# Altium schematic symbol library kmilo17pet-TI_LDO_400_7500.SchLib: 1409 symbols (part 33 of 60)
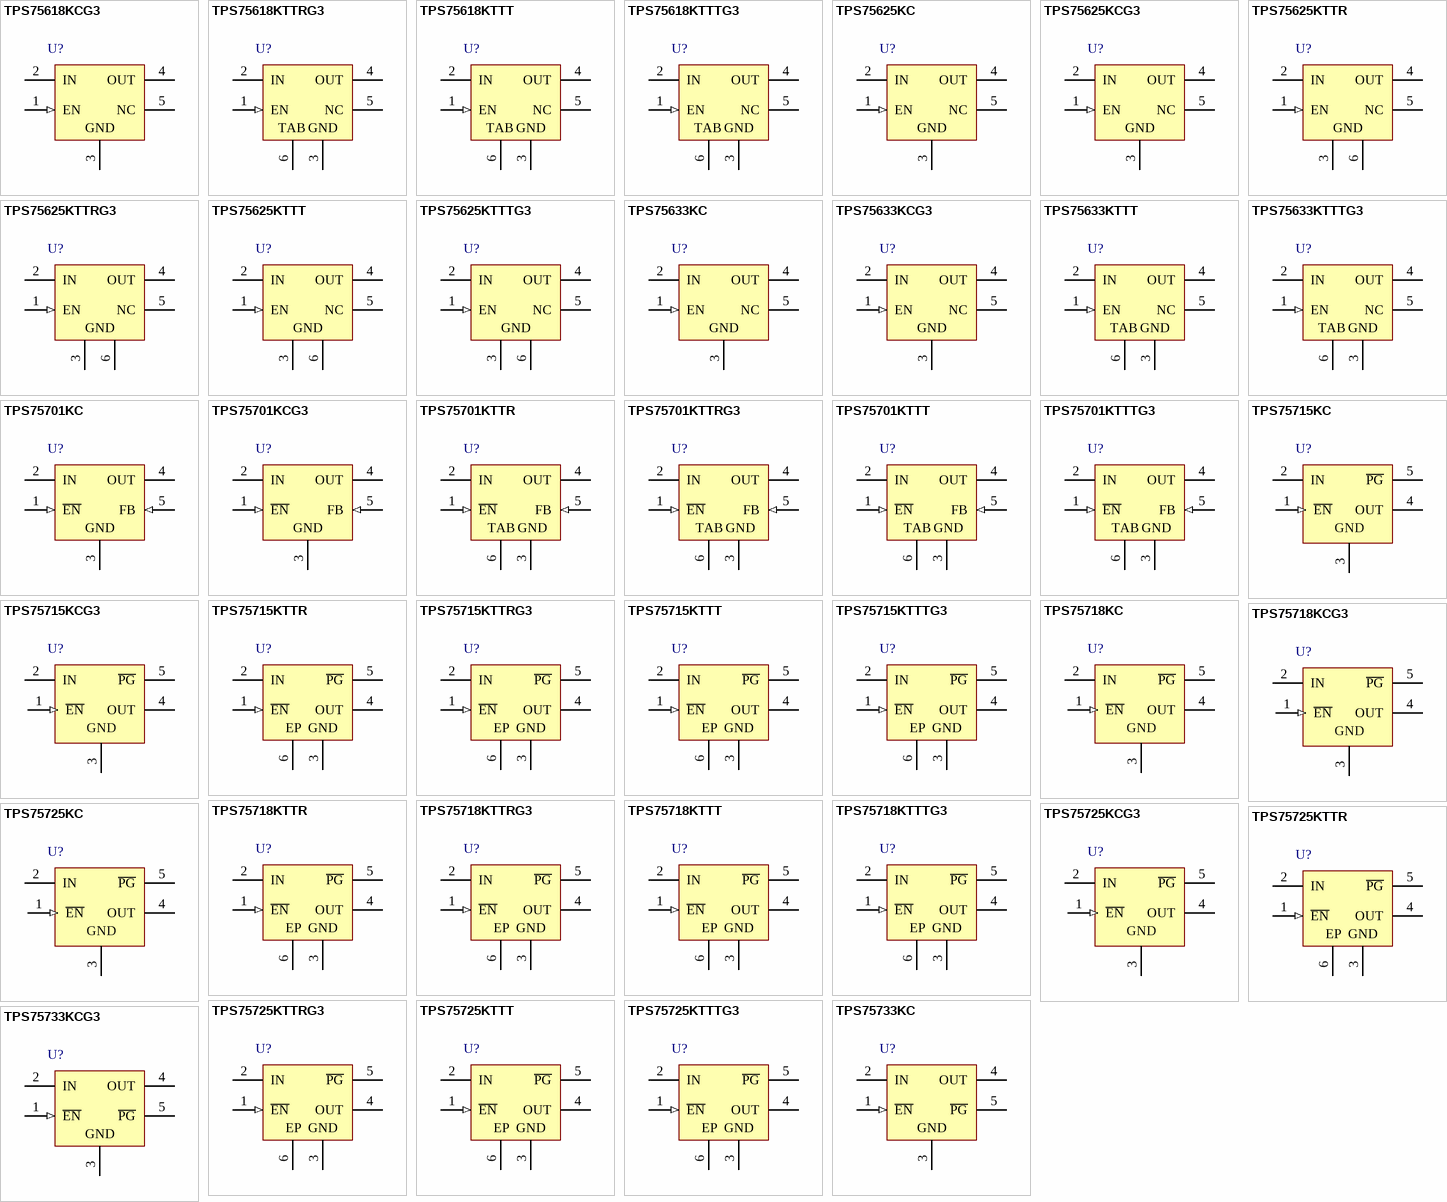
[diagram p82: symbols TPS75618KCG3 to TPS75733KCG3]

## TPS75725KTTT
designator U?
Single Output Fast Transient Response LDO, 3 A, Fixed 2.5 V Output, 2.8 to 5.5 V Input, with Low IQ, 5-pin DDPAK (KTT), -40 to 125 degC, Green (RoHS & no Sb/Br); Manufacturer: Texas Instruments; PartNumber: TPS75725KTTT; Fixed Output Options(V): 2.5; Iout(Max)(A): 3; Iq(Typ)(mA): 0.12; Power Good: TRUE; SubFamily: Single Channel LDO; Vdo(Typ)(mV): 150; Vin(Max)(V): 5.5; Vin(Min)(V): 2.8; DatasheetVersion: SLVS306E; PackageVersion: 4200577-3/F; PackageReference: KTT5; PackageDescription: 3-Pin Plastic Flange Mount, Body 10.16 x 10.34 mm, Pitch 1.7 mm; Supplier 1: Digi-Key; Supplier Part Number 1: 296-15923-2-ND; Supplier 2: Digi-Key; Supplier Part Number 2: 296-15923-1-ND; Supplier 3: Digi-Key; Supplier Part Number 3: 296-15923-6-ND; Supplier 4: Farnell; Supplier Part Number 4: 1460890; Supplier 5: Newark; Supplier Part Number 5: 87H2994; Supplier 6: Mouser; Supplier Part Number 6: 595-TPS75725KTTT; Eco-Plan: Green (RoHS & no Sb/Br); Vout Adj(Max)(V): 2.5; Vout Adj(Min)(V): 2.5; Mounting Technology: Surface Mount; Code_JEDEC: TO-263; ComponentLink1Description: Manufacturer URL; ComponentLink1URL: http://www.ti.com/; ComponentLink2Description: Datasheet; ComponentLink2URL: http://www.ti.com/general/docs/lit/getliterature.tsp?genericPartNumber=TPS75725&fileType=pdf; ComponentLink3Description: Package Specification; ComponentLink3URL: http://www.ti.com/litv/pdf/mpsf007e
footprint TI-KTT5_N (DPAK, 5-Leads, Body 10.16x8.925mm, Pitch 1.7mm, IPC Medium Density)
footprint TI-KTT5_L (DPAK, 5-Leads, Body 10.16x8.925mm, Pitch 1.7mm, IPC High Density)
footprint TI-KTT5_M (DPAK, 5-Leads, Body 10.16x8.925mm, Pitch 1.7mm, IPC Low Density)
pins: 1 ~{EN} (in) "Enable input", 2 IN (power) "Input voltage", 3 GND (power) "Regulator ground", 4 OUT (power) "Regulated output voltage", 5 ~{PG} (hiz) "P\G\ output for fixed options", 6 EP (power) "Connect to GND or Float"

## TPS75725KTTTG3
designator U?
Single Output Fast Transient Response LDO, 3 A, Fixed 2.5 V Output, 2.8 to 5.5 V Input, with Low IQ, 5-pin DDPAK (KTT), -40 to 125 degC, Green (RoHS & no Sb/Br); Manufacturer: Texas Instruments; PartNumber: TPS75725KTTTG3; Fixed Output Options(V): 2.5; Iout(Max)(A): 3; Iq(Typ)(mA): 0.12; Power Good: TRUE; SubFamily: Single Channel LDO; Vdo(Typ)(mV): 150; Vin(Max)(V): 5.5; Vin(Min)(V): 2.8; DatasheetVersion: SLVS306E; PackageVersion: 4200577-3/F; PackageReference: KTT5; PackageDescription: 3-Pin Plastic Flange Mount, Body 10.16 x 10.34 mm, Pitch 1.7 mm; Supplier 1: Digi-Key; Supplier Part Number 1: TPS75725KTTTG3-ND; Supplier 2: Mouser; Supplier Part Number 2: 595-TPS75725KTTTG3; Eco-Plan: Green (RoHS & no Sb/Br); Vout Adj(Max)(V): 2.5; Vout Adj(Min)(V): 2.5; Mounting Technology: Surface Mount; Code_JEDEC: TO-263; ComponentLink1Description: Manufacturer URL; ComponentLink1URL: http://www.ti.com/; ComponentLink2Description: Datasheet; ComponentLink2URL: http://www.ti.com/general/docs/lit/getliterature.tsp?genericPartNumber=TPS75725&fileType=pdf; ComponentLink3Description: Package Specification; ComponentLink3URL: http://www.ti.com/litv/pdf/mpsf007e
footprint TI-KTT5_N (DPAK, 5-Leads, Body 10.16x8.925mm, Pitch 1.7mm, IPC Medium Density)
footprint TI-KTT5_L (DPAK, 5-Leads, Body 10.16x8.925mm, Pitch 1.7mm, IPC High Density)
footprint TI-KTT5_M (DPAK, 5-Leads, Body 10.16x8.925mm, Pitch 1.7mm, IPC Low Density)
pins: 1 ~{EN} (in) "Enable input", 2 IN (power) "Input voltage", 3 GND (power) "Regulator ground", 4 OUT (power) "Regulated output voltage", 5 ~{PG} (hiz) "P\G\ output for fixed options", 6 EP (power) "Connect to GND or Float"

## TPS75733KC
designator U?
Single Output Fast Transient Response LDO, 3 A, Fixed 3.3 V Output, 2.8 to 5.5 V Input, with Low IQ, 5-pin TO-220 (KC), -40 to 125 degC, Green (RoHS & no Sb/Br); Manufacturer: Texas Instruments; PartNumber: TPS75733KC; Fixed Output Options(V): 3.3; Iout(Max)(A): 3; Iq(Typ)(mA): 0.12; Power Good: TRUE; SubFamily: Single Channel LDO; Vdo(Typ)(mV): 150; Vin(Max)(V): 5.5; Vin(Min)(V): 2.8; DatasheetVersion: SLVS306E; PackageVersion: 4040208/F; PackageReference: KC5; PackageDescription: 5-Pin Plastic Flange Mount; Supplier 1: Digi-Key; Supplier Part Number 1: 296-11006-5-ND; Supplier 2: Newark; Supplier Part Number 2: 77C0978; Supplier 3: Mouser; Supplier Part Number 3: 595-TPS75733KC; Eco-Plan: Green (RoHS & no Sb/Br); Vout Adj(Max)(V): 3.3; Vout Adj(Min)(V): 3.3; Mounting Technology: Through Hole; ComponentLink1Description: Manufacturer URL; ComponentLink1URL: http://www.ti.com/; ComponentLink2Description: Datasheet; ComponentLink2URL: http://www.ti.com/general/docs/lit/getliterature.tsp?genericPartNumber=TPS75733&fileType=pdf; ComponentLink3Description: Package Specification; ComponentLink3URL: http://www.ti.com/litv/pdf/msot008c
footprint TI-KC5 (FM, 5-Leads, Body 10.16x8.46mm, Pitch 1.7mm,)
pins: 1 ~{EN} (in) "Enable input", 2 IN (power) "Input voltage", 3 GND (power) "Regulator ground", 4 OUT (power) "Regulated output voltage", 5 ~{PG} (hiz) "P\G\ output for fixed options"

## TPS75733KCG3
designator U?
Single Output Fast Transient Response LDO, 3 A, Fixed 3.3 V Output, 2.8 to 5.5 V Input, with Low IQ, 5-pin TO-220 (KC), -40 to 125 degC, Green (RoHS & no Sb/Br); Manufacturer: Texas Instruments; PartNumber: TPS75733KCG3; Fixed Output Options(V): 3.3; Iout(Max)(A): 3; Iq(Typ)(mA): 0.12; Power Good: TRUE; SubFamily: Single Channel LDO; Vdo(Typ)(mV): 150; Vin(Max)(V): 5.5; Vin(Min)(V): 2.8; DatasheetVersion: SLVS306E; PackageVersion: 4040208/F; PackageReference: KC5; PackageDescription: 5-Pin Plastic Flange Mount; Supplier 1: Digi-Key; Supplier Part Number 1: TPS75733KCG3-ND; Supplier 2: Mouser; Supplier Part Number 2: 595-TPS75733KCG3; Eco-Plan: Green (RoHS & no Sb/Br); Vout Adj(Max)(V): 3.3; Vout Adj(Min)(V): 3.3; Mounting Technology: Through Hole; ComponentLink1Description: Manufacturer URL; ComponentLink1URL: http://www.ti.com/; ComponentLink2Description: Datasheet; ComponentLink2URL: http://www.ti.com/general/docs/lit/getliterature.tsp?genericPartNumber=TPS75733&fileType=pdf; ComponentLink3Description: Package Specification; ComponentLink3URL: http://www.ti.com/litv/pdf/msot008c
footprint TI-KC5 (FM, 5-Leads, Body 10.16x8.46mm, Pitch 1.7mm,)
pins: 1 ~{EN} (in) "Enable input", 2 IN (power) "Input voltage", 3 GND (power) "Regulator ground", 4 OUT (power) "Regulated output voltage", 5 ~{PG} (hiz) "P\G\ output for fixed options"

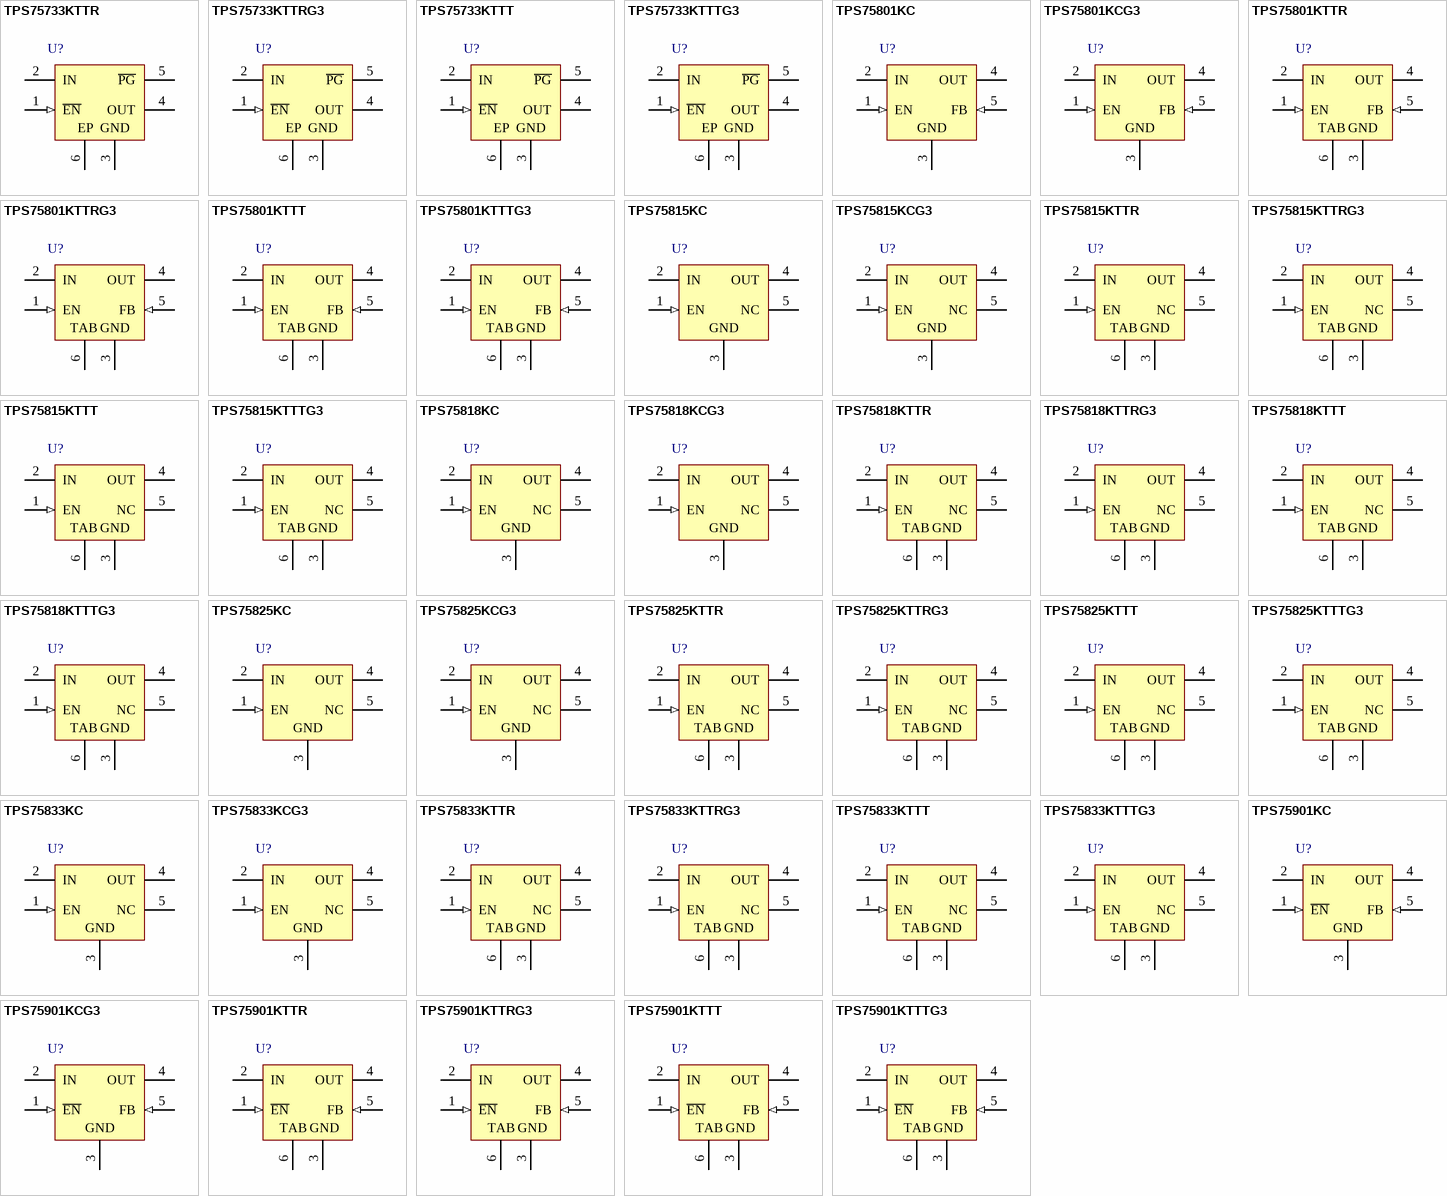
[diagram p26: symbols TPS75733KTTR to TPS75901KTTTG3]

## TPS75733KTTR
designator U?
Single Output Fast Transient Response LDO, 3 A, Fixed 3.3 V Output, 2.8 to 5.5 V Input, with Low IQ, 5-pin DDPAK (KTT), -40 to 125 degC, Green (RoHS & no Sb/Br); Manufacturer: Texas Instruments; PartNumber: TPS75733KTTR; Fixed Output Options(V): 3.3; Iout(Max)(A): 3; Iq(Typ)(mA): 0.12; Power Good: TRUE; SubFamily: Single Channel LDO; Vdo(Typ)(mV): 150; Vin(Max)(V): 5.5; Vin(Min)(V): 2.8; DatasheetVersion: SLVS306E; PackageVersion: 4200577-3/F; PackageReference: KTT5; PackageDescription: 3-Pin Plastic Flange Mount, Body 10.16 x 10.34 mm, Pitch 1.7 mm; Supplier 1: Digi-Key; Supplier Part Number 1: TPS75733KTTR-ND; Supplier 2: Mouser; Supplier Part Number 2: 595-TPS75733KTTR; Eco-Plan: Green (RoHS & no Sb/Br); Vout Adj(Max)(V): 3.3; Vout Adj(Min)(V): 3.3; Mounting Technology: Surface Mount; Code_JEDEC: TO-263; ComponentLink1Description: Manufacturer URL; ComponentLink1URL: http://www.ti.com/; ComponentLink2Description: Datasheet; ComponentLink2URL: http://www.ti.com/general/docs/lit/getliterature.tsp?genericPartNumber=TPS75733&fileType=pdf; ComponentLink3Description: Package Specification; ComponentLink3URL: http://www.ti.com/litv/pdf/mpsf007e
footprint TI-KTT5_N (DPAK, 5-Leads, Body 10.16x8.925mm, Pitch 1.7mm, IPC Medium Density)
footprint TI-KTT5_L (DPAK, 5-Leads, Body 10.16x8.925mm, Pitch 1.7mm, IPC High Density)
footprint TI-KTT5_M (DPAK, 5-Leads, Body 10.16x8.925mm, Pitch 1.7mm, IPC Low Density)
pins: 1 ~{EN} (in) "Enable input", 2 IN (power) "Input voltage", 3 GND (power) "Regulator ground", 4 OUT (power) "Regulated output voltage", 5 ~{PG} (hiz) "P\G\ output for fixed options", 6 EP (power) "Connect to GND or Float"

## TPS75733KTTRG3
designator U?
Single Output Fast Transient Response LDO, 3 A, Fixed 3.3 V Output, 2.8 to 5.5 V Input, with Low IQ, 5-pin DDPAK (KTT), -40 to 125 degC, Green (RoHS & no Sb/Br); Manufacturer: Texas Instruments; PartNumber: TPS75733KTTRG3; Fixed Output Options(V): 3.3; Iout(Max)(A): 3; Iq(Typ)(mA): 0.12; Power Good: TRUE; SubFamily: Single Channel LDO; Vdo(Typ)(mV): 150; Vin(Max)(V): 5.5; Vin(Min)(V): 2.8; DatasheetVersion: SLVS306E; PackageVersion: 4200577-3/F; PackageReference: KTT5; PackageDescription: 3-Pin Plastic Flange Mount, Body 10.16 x 10.34 mm, Pitch 1.7 mm; Supplier 1: Digi-Key; Supplier Part Number 1: TPS75733KTTRG3-ND; Supplier 2: Mouser; Supplier Part Number 2: 595-TPS75733KTTRG3; Eco-Plan: Green (RoHS & no Sb/Br); Vout Adj(Max)(V): 3.3; Vout Adj(Min)(V): 3.3; Mounting Technology: Surface Mount; Code_JEDEC: TO-263; ComponentLink1Description: Manufacturer URL; ComponentLink1URL: http://www.ti.com/; ComponentLink2Description: Datasheet; ComponentLink2URL: http://www.ti.com/general/docs/lit/getliterature.tsp?genericPartNumber=TPS75733&fileType=pdf; ComponentLink3Description: Package Specification; ComponentLink3URL: http://www.ti.com/litv/pdf/mpsf007e
footprint TI-KTT5_N (DPAK, 5-Leads, Body 10.16x8.925mm, Pitch 1.7mm, IPC Medium Density)
footprint TI-KTT5_L (DPAK, 5-Leads, Body 10.16x8.925mm, Pitch 1.7mm, IPC High Density)
footprint TI-KTT5_M (DPAK, 5-Leads, Body 10.16x8.925mm, Pitch 1.7mm, IPC Low Density)
pins: 1 ~{EN} (in) "Enable input", 2 IN (power) "Input voltage", 3 GND (power) "Regulator ground", 4 OUT (power) "Regulated output voltage", 5 ~{PG} (hiz) "P\G\ output for fixed options", 6 EP (power) "Connect to GND or Float"

## TPS75733KTTT
designator U?
Single Output Fast Transient Response LDO, 3 A, Fixed 3.3 V Output, 2.8 to 5.5 V Input, with Low IQ, 5-pin DDPAK (KTT), -40 to 125 degC, Green (RoHS & no Sb/Br); Manufacturer: Texas Instruments; PartNumber: TPS75733KTTT; Fixed Output Options(V): 3.3; Iout(Max)(A): 3; Iq(Typ)(mA): 0.12; Power Good: TRUE; SubFamily: Single Channel LDO; Vdo(Typ)(mV): 150; Vin(Max)(V): 5.5; Vin(Min)(V): 2.8; DatasheetVersion: SLVS306E; PackageVersion: 4200577-3/F; PackageReference: KTT5; PackageDescription: 3-Pin Plastic Flange Mount, Body 10.16 x 10.34 mm, Pitch 1.7 mm; Supplier 1: Digi-Key; Supplier Part Number 1: 296-15924-2-ND; Supplier 2: Digi-Key; Supplier Part Number 2: 296-15924-1-ND; Supplier 3: Digi-Key; Supplier Part Number 3: 296-15924-6-ND; Supplier 4: Newark; Supplier Part Number 4: 87H2995; Supplier 5: Mouser; Supplier Part Number 5: 595-TPS75733KTTT; Eco-Plan: Green (RoHS & no Sb/Br); Vout Adj(Max)(V): 3.3; Vout Adj(Min)(V): 3.3; Mounting Technology: Surface Mount; Code_JEDEC: TO-263; ComponentLink1Description: Manufacturer URL; ComponentLink1URL: http://www.ti.com/; ComponentLink2Description: Datasheet; ComponentLink2URL: http://www.ti.com/general/docs/lit/getliterature.tsp?genericPartNumber=TPS75733&fileType=pdf; ComponentLink3Description: Package Specification; ComponentLink3URL: http://www.ti.com/litv/pdf/mpsf007e
footprint TI-KTT5_N (DPAK, 5-Leads, Body 10.16x8.925mm, Pitch 1.7mm, IPC Medium Density)
footprint TI-KTT5_L (DPAK, 5-Leads, Body 10.16x8.925mm, Pitch 1.7mm, IPC High Density)
footprint TI-KTT5_M (DPAK, 5-Leads, Body 10.16x8.925mm, Pitch 1.7mm, IPC Low Density)
pins: 1 ~{EN} (in) "Enable input", 2 IN (power) "Input voltage", 3 GND (power) "Regulator ground", 4 OUT (power) "Regulated output voltage", 5 ~{PG} (hiz) "P\G\ output for fixed options", 6 EP (power) "Connect to GND or Float"

## TPS75733KTTTG3
designator U?
Single Output Fast Transient Response LDO, 3 A, Fixed 3.3 V Output, 2.8 to 5.5 V Input, with Low IQ, 5-pin DDPAK (KTT), -40 to 125 degC, Green (RoHS & no Sb/Br); Manufacturer: Texas Instruments; PartNumber: TPS75733KTTTG3; Fixed Output Options(V): 3.3; Iout(Max)(A): 3; Iq(Typ)(mA): 0.12; Power Good: TRUE; SubFamily: Single Channel LDO; Vdo(Typ)(mV): 150; Vin(Max)(V): 5.5; Vin(Min)(V): 2.8; DatasheetVersion: SLVS306E; PackageVersion: 4200577-3/F; PackageReference: KTT5; PackageDescription: 3-Pin Plastic Flange Mount, Body 10.16 x 10.34 mm, Pitch 1.7 mm; Supplier 1: Digi-Key; Supplier Part Number 1: TPS75733KTTTG3-ND; Supplier 2: Newark; Supplier Part Number 2: 54K1831; Supplier 3: Mouser; Supplier Part Number 3: 595-TPS75733KTTTG3; Eco-Plan: Green (RoHS & no Sb/Br); Vout Adj(Max)(V): 3.3; Vout Adj(Min)(V): 3.3; Mounting Technology: Surface Mount; Code_JEDEC: TO-263; ComponentLink1Description: Manufacturer URL; ComponentLink1URL: http://www.ti.com/; ComponentLink2Description: Datasheet; ComponentLink2URL: http://www.ti.com/general/docs/lit/getliterature.tsp?genericPartNumber=TPS75733&fileType=pdf; ComponentLink3Description: Package Specification; ComponentLink3URL: http://www.ti.com/litv/pdf/mpsf007e
footprint TI-KTT5_N (DPAK, 5-Leads, Body 10.16x8.925mm, Pitch 1.7mm, IPC Medium Density)
footprint TI-KTT5_L (DPAK, 5-Leads, Body 10.16x8.925mm, Pitch 1.7mm, IPC High Density)
footprint TI-KTT5_M (DPAK, 5-Leads, Body 10.16x8.925mm, Pitch 1.7mm, IPC Low Density)
pins: 1 ~{EN} (in) "Enable input", 2 IN (power) "Input voltage", 3 GND (power) "Regulator ground", 4 OUT (power) "Regulated output voltage", 5 ~{PG} (hiz) "P\G\ output for fixed options", 6 EP (power) "Connect to GND or Float"

## TPS75801KC
designator U?
Single Output Fast Transient Response LDO, 3 A, Adjustable 1.22 to 5 V Output, 2.8 to 5.5 V Input, with Low IQ, 5-pin TO-220 (KC), -40 to 85 degC, Green (RoHS & no Sb/Br); Manufacturer: Texas Instruments; PartNumber: TPS75801KC; Accuracy(%): 3; Iq(Typ)(mA): 0.12; SubFamily: Single Channel LDO; Vdo(Typ)(mV): 150; Vin(Max)(V): 5.5; Vin(Min)(V): 2.8; Vout Adj(Max)(V): 5; Vout Adj(Min)(V): 1.22; DatasheetVersion: SLVS330F; PackageVersion: 4040208/F; PackageReference: KC5; PackageDescription: 5-Pin Plastic Flange Mount; Supplier 1: Digi-Key; Supplier Part Number 1: 296-11957-5-ND; Supplier 2: Newark; Supplier Part Number 2: 77C0981; Supplier 3: Mouser; Supplier Part Number 3: 595-TPS75801KC; Eco-Plan: Green (RoHS & no Sb/Br); Iout(Max)(A): 3; Mounting Technology: Through Hole; ComponentLink1Description: Manufacturer URL; ComponentLink1URL: http://www.ti.com/; ComponentLink2Description: Datasheet; ComponentLink2URL: http://www.ti.com/general/docs/lit/getliterature.tsp?genericPartNumber=TPS75801&fileType=pdf; ComponentLink3Description: Package Specification; ComponentLink3URL: http://www.ti.com/litv/pdf/msot008c
footprint TI-KC5 (FM, 5-Leads, Body 10.16x8.46mm, Pitch 1.7mm,)
pins: 1 EN (in) "Enable input", 2 IN (power) "Input supply", 3 GND (power) "Ground", 4 OUT (power) "Regulated output voltage", 5 FB (in) "Feedback voltage for adjustable device."

## TPS75801KCG3
designator U?
Single Output Fast Transient Response LDO, 3 A, Adjustable 1.22 to 5 V Output, 2.8 to 5.5 V Input, with Low IQ, 5-pin TO-220 (KC), -40 to 85 degC, Green (RoHS & no Sb/Br); Manufacturer: Texas Instruments; PartNumber: TPS75801KCG3; Accuracy(%): 3; Iq(Typ)(mA): 0.12; SubFamily: Single Channel LDO; Vdo(Typ)(mV): 150; Vin(Max)(V): 5.5; Vin(Min)(V): 2.8; Vout Adj(Max)(V): 5; Vout Adj(Min)(V): 1.22; DatasheetVersion: SLVS330F; PackageVersion: 4040208/F; PackageReference: KC5; PackageDescription: 5-Pin Plastic Flange Mount; Supplier 1: Digi-Key; Supplier Part Number 1: TPS75801KCG3-ND; Supplier 2: Newark; Supplier Part Number 2: 54K1832; Supplier 3: Mouser; Supplier Part Number 3: 595-TPS75801KCG3; Eco-Plan: Green (RoHS & no Sb/Br); Iout(Max)(A): 3; Mounting Technology: Through Hole; ComponentLink1Description: Manufacturer URL; ComponentLink1URL: http://www.ti.com/; ComponentLink2Description: Datasheet; ComponentLink2URL: http://www.ti.com/general/docs/lit/getliterature.tsp?genericPartNumber=TPS75801&fileType=pdf; ComponentLink3Description: Package Specification; ComponentLink3URL: http://www.ti.com/litv/pdf/msot008c
footprint TI-KC5 (FM, 5-Leads, Body 10.16x8.46mm, Pitch 1.7mm,)
pins: 1 EN (in) "Enable input", 2 IN (power) "Input supply", 3 GND (power) "Ground", 4 OUT (power) "Regulated output voltage", 5 FB (in) "Feedback voltage for adjustable device."

## TPS75801KTTR
designator U?
Single Output Fast Transient Response LDO, 3 A, Adjustable 1.22 to 5 V Output, 2.8 to 5.5 V Input, with Low IQ, 5-pin DDPAK (KTT), -40 to 85 degC, Green (RoHS & no Sb/Br); Manufacturer: Texas Instruments; PartNumber: TPS75801KTTR; Accuracy(%): 3; Iq(Typ)(mA): 0.12; SubFamily: Single Channel LDO; Vdo(Typ)(mV): 150; Vin(Max)(V): 5.5; Vin(Min)(V): 2.8; Vout Adj(Max)(V): 5; Vout Adj(Min)(V): 1.22; DatasheetVersion: SLVS330F; PackageVersion: 4200577-3/F; PackageReference: KTT5; PackageDescription: 3-Pin Plastic Flange Mount, Body 10.16 x 10.34 mm, Pitch 1.7 mm; Supplier 1: Digi-Key; Supplier Part Number 1: 296-31994-2-ND; Supplier 2: Digi-Key; Supplier Part Number 2: 296-31994-1-ND; Supplier 3: Digi-Key; Supplier Part Number 3: 296-31994-6-ND; Supplier 4: Newark; Supplier Part Number 4: 77C0983; Supplier 5: Mouser; Supplier Part Number 5: 595-TPS75801KTTR; Eco-Plan: Green (RoHS & no Sb/Br); Iout(Max)(A): 3; Mounting Technology: Surface Mount; Code_JEDEC: TO-263; ComponentLink1Description: Manufacturer URL; ComponentLink1URL: http://www.ti.com/; ComponentLink2Description: Datasheet; ComponentLink2URL: http://www.ti.com/general/docs/lit/getliterature.tsp?genericPartNumber=TPS75801&fileType=pdf; ComponentLink3Description: Package Specification; ComponentLink3URL: http://www.ti.com/litv/pdf/mpsf007e
footprint TI-KTT5_N (DPAK, 5-Leads, Body 10.16x8.925mm, Pitch 1.7mm, IPC Medium Density)
footprint TI-KTT5_L (DPAK, 5-Leads, Body 10.16x8.925mm, Pitch 1.7mm, IPC High Density)
footprint TI-KTT5_M (DPAK, 5-Leads, Body 10.16x8.925mm, Pitch 1.7mm, IPC Low Density)
pins: 1 EN (in) "Enable input", 2 IN (power) "Input supply", 3 GND (power) "Ground", 4 OUT (power) "Regulated output voltage; see Output Capacitor section for output capacitor requirements.", 5 FB (in) "Feedback voltage for adjustable device.", 6 TAB (power) "Exposed thermal tab"

## TPS75801KTTRG3
designator U?
Single Output Fast Transient Response LDO, 3 A, Adjustable 1.22 to 5 V Output, 2.8 to 5.5 V Input, with Low IQ, 5-pin DDPAK (KTT), -40 to 85 degC, Green (RoHS & no Sb/Br); Manufacturer: Texas Instruments; PartNumber: TPS75801KTTRG3; Accuracy(%): 3; Iq(Typ)(mA): 0.12; SubFamily: Single Channel LDO; Vdo(Typ)(mV): 150; Vin(Max)(V): 5.5; Vin(Min)(V): 2.8; Vout Adj(Max)(V): 5; Vout Adj(Min)(V): 1.22; DatasheetVersion: SLVS330F; PackageVersion: 4200577-3/F; PackageReference: KTT5; PackageDescription: 3-Pin Plastic Flange Mount, Body 10.16 x 10.34 mm, Pitch 1.7 mm; Supplier 1: Digi-Key; Supplier Part Number 1: TPS75801KTTRG3-ND; Supplier 2: Newark; Supplier Part Number 2: 08K4971; Supplier 3: Mouser; Supplier Part Number 3: 595-TPS75801KTTRG3; Eco-Plan: Green (RoHS & no Sb/Br); Iout(Max)(A): 3; Mounting Technology: Surface Mount; Code_JEDEC: TO-263; ComponentLink1Description: Manufacturer URL; ComponentLink1URL: http://www.ti.com/; ComponentLink2Description: Datasheet; ComponentLink2URL: http://www.ti.com/general/docs/lit/getliterature.tsp?genericPartNumber=TPS75801&fileType=pdf; ComponentLink3Description: Package Specification; ComponentLink3URL: http://www.ti.com/litv/pdf/mpsf007e
footprint TI-KTT5_N (DPAK, 5-Leads, Body 10.16x8.925mm, Pitch 1.7mm, IPC Medium Density)
footprint TI-KTT5_L (DPAK, 5-Leads, Body 10.16x8.925mm, Pitch 1.7mm, IPC High Density)
footprint TI-KTT5_M (DPAK, 5-Leads, Body 10.16x8.925mm, Pitch 1.7mm, IPC Low Density)
pins: 1 EN (in) "Enable input", 2 IN (power) "Input supply", 3 GND (power) "Ground", 4 OUT (power) "Regulated output voltage; see Output Capacitor section for output capacitor requirements.", 5 FB (in) "Feedback voltage for adjustable device.", 6 TAB (power) "Exposed thermal tab"

## TPS75801KTTT
designator U?
Single Output Fast Transient Response LDO, 3 A, Adjustable 1.22 to 5 V Output, 2.8 to 5.5 V Input, with Low IQ, 5-pin DDPAK (KTT), -40 to 85 degC, Green (RoHS & no Sb/Br); Manufacturer: Texas Instruments; PartNumber: TPS75801KTTT; Accuracy(%): 3; Iq(Typ)(mA): 0.12; SubFamily: Single Channel LDO; Vdo(Typ)(mV): 150; Vin(Max)(V): 5.5; Vin(Min)(V): 2.8; Vout Adj(Max)(V): 5; Vout Adj(Min)(V): 1.22; DatasheetVersion: SLVS330F; PackageVersion: 4200577-3/F; PackageReference: KTT5; PackageDescription: 3-Pin Plastic Flange Mount, Body 10.16 x 10.34 mm, Pitch 1.7 mm; Supplier 1: Digi-Key; Supplier Part Number 1: 296-15925-2-ND; Supplier 2: Digi-Key; Supplier Part Number 2: 296-15925-1-ND; Supplier 3: Digi-Key; Supplier Part Number 3: 296-15925-6-ND; Supplier 4: Newark; Supplier Part Number 4: 87H2996; Supplier 5: Mouser; Supplier Part Number 5: 595-TPS75801KTTT; Eco-Plan: Green (RoHS & no Sb/Br); Iout(Max)(A): 3; Mounting Technology: Surface Mount; Code_JEDEC: TO-263; ComponentLink1Description: Manufacturer URL; ComponentLink1URL: http://www.ti.com/; ComponentLink2Description: Datasheet; ComponentLink2URL: http://www.ti.com/general/docs/lit/getliterature.tsp?genericPartNumber=TPS75801&fileType=pdf; ComponentLink3Description: Package Specification; ComponentLink3URL: http://www.ti.com/litv/pdf/mpsf007e
footprint TI-KTT5_N (DPAK, 5-Leads, Body 10.16x8.925mm, Pitch 1.7mm, IPC Medium Density)
footprint TI-KTT5_L (DPAK, 5-Leads, Body 10.16x8.925mm, Pitch 1.7mm, IPC High Density)
footprint TI-KTT5_M (DPAK, 5-Leads, Body 10.16x8.925mm, Pitch 1.7mm, IPC Low Density)
pins: 1 EN (in) "Enable input", 2 IN (power) "Input supply", 3 GND (power) "Ground", 4 OUT (power) "Regulated output voltage; see Output Capacitor section for output capacitor requirements.", 5 FB (in) "Feedback voltage for adjustable device.", 6 TAB (power) "Exposed thermal tab"

## TPS75801KTTTG3
designator U?
Single Output Fast Transient Response LDO, 3 A, Adjustable 1.22 to 5 V Output, 2.8 to 5.5 V Input, with Low IQ, 5-pin DDPAK (KTT), -40 to 85 degC, Green (RoHS & no Sb/Br); Manufacturer: Texas Instruments; PartNumber: TPS75801KTTTG3; Accuracy(%): 3; Iq(Typ)(mA): 0.12; SubFamily: Single Channel LDO; Vdo(Typ)(mV): 150; Vin(Max)(V): 5.5; Vin(Min)(V): 2.8; Vout Adj(Max)(V): 5; Vout Adj(Min)(V): 1.22; DatasheetVersion: SLVS330F; PackageVersion: 4200577-3/F; PackageReference: KTT5; PackageDescription: 3-Pin Plastic Flange Mount, Body 10.16 x 10.34 mm, Pitch 1.7 mm; Supplier 1: Digi-Key; Supplier Part Number 1: TPS75801KTTTG3-ND; Supplier 2: Newark; Supplier Part Number 2: 58K6980; Supplier 3: Mouser; Supplier Part Number 3: 595-TPS75801KTTTG3; Eco-Plan: Green (RoHS & no Sb/Br); Iout(Max)(A): 3; Mounting Technology: Surface Mount; Code_JEDEC: TO-263; ComponentLink1Description: Manufacturer URL; ComponentLink1URL: http://www.ti.com/; ComponentLink2Description: Datasheet; ComponentLink2URL: http://www.ti.com/general/docs/lit/getliterature.tsp?genericPartNumber=TPS75801&fileType=pdf; ComponentLink3Description: Package Specification; ComponentLink3URL: http://www.ti.com/litv/pdf/mpsf007e
footprint TI-KTT5_N (DPAK, 5-Leads, Body 10.16x8.925mm, Pitch 1.7mm, IPC Medium Density)
footprint TI-KTT5_L (DPAK, 5-Leads, Body 10.16x8.925mm, Pitch 1.7mm, IPC High Density)
footprint TI-KTT5_M (DPAK, 5-Leads, Body 10.16x8.925mm, Pitch 1.7mm, IPC Low Density)
pins: 1 EN (in) "Enable input", 2 IN (power) "Input supply", 3 GND (power) "Ground", 4 OUT (power) "Regulated output voltage; see Output Capacitor section for output capacitor requirements.", 5 FB (in) "Feedback voltage for adjustable device.", 6 TAB (power) "Exposed thermal tab"

## TPS75815KC
designator U?
Single Output Fast Transient Response LDO, 3 A, Fixed 1.5 V Output, 2.8 to 5.5 V Input, with Low IQ, 5-pin TO-220 (KC), -40 to 85 degC, Green (RoHS & no Sb/Br); Manufacturer: Texas Instruments; PartNumber: TPS75815KC; Accuracy(%): 3; Fixed Output Options(V): 1.5; Iq(Typ)(mA): 0.12; SubFamily: Single Channel LDO; Vdo(Typ)(mV): 150; Vin(Max)(V): 5.5; Vin(Min)(V): 2.8; DatasheetVersion: SLVS330F; PackageVersion: 4040208/F; PackageReference: KC5; PackageDescription: 5-Pin Plastic Flange Mount; Supplier 1: Digi-Key; Supplier Part Number 1: 296-11959-5-ND; Supplier 2: Mouser; Supplier Part Number 2: 595-TPS75815KC; Eco-Plan: Green (RoHS & no Sb/Br); Iout(Max)(A): 3; Vout Adj(Max)(V): 1.5; Vout Adj(Min)(V): 1.5; Mounting Technology: Through Hole; ComponentLink1Description: Manufacturer URL; ComponentLink1URL: http://www.ti.com/; ComponentLink2Description: Datasheet; ComponentLink2URL: http://www.ti.com/general/docs/lit/getliterature.tsp?genericPartNumber=TPS75815&fileType=pdf; ComponentLink3Description: Package Specification; ComponentLink3URL: http://www.ti.com/litv/pdf/msot008c
footprint TI-KC5 (FM, 5-Leads, Body 10.16x8.46mm, Pitch 1.7mm,)
pins: 1 EN (in) "Enable input", 2 IN (power) "Input supply", 3 GND (power) "Ground", 4 OUT (power) "Regulated output voltage", 5 NC "No connection"

## TPS75815KCG3
designator U?
Single Output Fast Transient Response LDO, 3 A, Fixed 1.5 V Output, 2.8 to 5.5 V Input, with Low IQ, 5-pin TO-220 (KC), -40 to 85 degC, Green (RoHS & no Sb/Br); Manufacturer: Texas Instruments; PartNumber: TPS75815KCG3; Accuracy(%): 3; Fixed Output Options(V): 1.5; Iq(Typ)(mA): 0.12; SubFamily: Single Channel LDO; Vdo(Typ)(mV): 150; Vin(Max)(V): 5.5; Vin(Min)(V): 2.8; DatasheetVersion: SLVS330F; PackageVersion: 4040208/F; PackageReference: KC5; PackageDescription: 5-Pin Plastic Flange Mount; Supplier 1: Digi-Key; Supplier Part Number 1: TPS75815KCG3-ND; Supplier 2: Mouser; Supplier Part Number 2: 595-TPS75815KCG3; Eco-Plan: Green (RoHS & no Sb/Br); Iout(Max)(A): 3; Vout Adj(Max)(V): 1.5; Vout Adj(Min)(V): 1.5; Mounting Technology: Through Hole; ComponentLink1Description: Manufacturer URL; ComponentLink1URL: http://www.ti.com/; ComponentLink2Description: Datasheet; ComponentLink2URL: http://www.ti.com/general/docs/lit/getliterature.tsp?genericPartNumber=TPS75815&fileType=pdf; ComponentLink3Description: Package Specification; ComponentLink3URL: http://www.ti.com/litv/pdf/msot008c
footprint TI-KC5 (FM, 5-Leads, Body 10.16x8.46mm, Pitch 1.7mm,)
pins: 1 EN (in) "Enable input", 2 IN (power) "Input supply", 3 GND (power) "Ground", 4 OUT (power) "Regulated output voltage", 5 NC "No connection"

## TPS75815KTTR
designator U?
Single Output Fast Transient Response LDO, 3 A, Fixed 1.5 V Output, 2.8 to 5.5 V Input, with Low IQ, 5-pin DDPAK (KTT), -40 to 85 degC, Green (RoHS & no Sb/Br); Manufacturer: Texas Instruments; PartNumber: TPS75815KTTR; Accuracy(%): 3; Fixed Output Options(V): 1.5; Iq(Typ)(mA): 0.12; SubFamily: Single Channel LDO; Vdo(Typ)(mV): 150; Vin(Max)(V): 5.5; Vin(Min)(V): 2.8; DatasheetVersion: SLVS330F; PackageVersion: 4200577-3/F; PackageReference: KTT5; PackageDescription: 3-Pin Plastic Flange Mount, Body 10.16 x 10.34 mm, Pitch 1.7 mm; Supplier 1: Digi-Key; Supplier Part Number 1: 296-29294-2-ND; Supplier 2: Digi-Key; Supplier Part Number 2: 296-29294-1-ND; Supplier 3: Digi-Key; Supplier Part Number 3: 296-29294-6-ND; Supplier 4: Newark; Supplier Part Number 4: 77C0986; Supplier 5: Mouser; Supplier Part Number 5: 595-TPS75815KTTR; Eco-Plan: Green (RoHS & no Sb/Br); Iout(Max)(A): 3; Vout Adj(Max)(V): 1.5; Vout Adj(Min)(V): 1.5; Mounting Technology: Surface Mount; Code_JEDEC: TO-263; ComponentLink1Description: Manufacturer URL; ComponentLink1URL: http://www.ti.com/; ComponentLink2Description: Datasheet; ComponentLink2URL: http://www.ti.com/general/docs/lit/getliterature.tsp?genericPartNumber=TPS75815&fileType=pdf; ComponentLink3Description: Package Specification; ComponentLink3URL: http://www.ti.com/litv/pdf/mpsf007e
footprint TI-KTT5_N (DPAK, 5-Leads, Body 10.16x8.925mm, Pitch 1.7mm, IPC Medium Density)
footprint TI-KTT5_L (DPAK, 5-Leads, Body 10.16x8.925mm, Pitch 1.7mm, IPC High Density)
footprint TI-KTT5_M (DPAK, 5-Leads, Body 10.16x8.925mm, Pitch 1.7mm, IPC Low Density)
pins: 1 EN (in) "Enable input", 2 IN (power) "Input voltage", 3 GND (power) "Regulator ground", 4 OUT (power) "Regulated output voltage", 5 NC "No connection for fixed options", 6 TAB (power) "Exposed Thermal Tab"

## TPS75815KTTRG3
designator U?
Single Output Fast Transient Response LDO, 3 A, Fixed 1.5 V Output, 2.8 to 5.5 V Input, with Low IQ, 5-pin DDPAK (KTT), -40 to 85 degC, Green (RoHS & no Sb/Br); Manufacturer: Texas Instruments; PartNumber: TPS75815KTTRG3; Accuracy(%): 3; Fixed Output Options(V): 1.5; Iq(Typ)(mA): 0.12; SubFamily: Single Channel LDO; Vdo(Typ)(mV): 150; Vin(Max)(V): 5.5; Vin(Min)(V): 2.8; DatasheetVersion: SLVS330F; PackageVersion: 4200577-3/F; PackageReference: KTT5; PackageDescription: 3-Pin Plastic Flange Mount, Body 10.16 x 10.34 mm, Pitch 1.7 mm; Supplier 1: Digi-Key; Supplier Part Number 1: TPS75815KTTRG3-ND; Supplier 2: Mouser; Supplier Part Number 2: 595-TPS75815KTTRG3; Eco-Plan: Green (RoHS & no Sb/Br); Iout(Max)(A): 3; Vout Adj(Max)(V): 1.5; Vout Adj(Min)(V): 1.5; Mounting Technology: Surface Mount; Code_JEDEC: TO-263; ComponentLink1Description: Manufacturer URL; ComponentLink1URL: http://www.ti.com/; ComponentLink2Description: Datasheet; ComponentLink2URL: http://www.ti.com/general/docs/lit/getliterature.tsp?genericPartNumber=TPS75815&fileType=pdf; ComponentLink3Description: Package Specification; ComponentLink3URL: http://www.ti.com/litv/pdf/mpsf007e
footprint TI-KTT5_N (DPAK, 5-Leads, Body 10.16x8.925mm, Pitch 1.7mm, IPC Medium Density)
footprint TI-KTT5_L (DPAK, 5-Leads, Body 10.16x8.925mm, Pitch 1.7mm, IPC High Density)
footprint TI-KTT5_M (DPAK, 5-Leads, Body 10.16x8.925mm, Pitch 1.7mm, IPC Low Density)
pins: 1 EN (in) "Enable input", 2 IN (power) "Input voltage", 3 GND (power) "Regulator ground", 4 OUT (power) "Regulated output voltage", 5 NC "No connection for fixed options", 6 TAB (power) "Exposed Thermal Tab"

## TPS75815KTTT
designator U?
Single Output Fast Transient Response LDO, 3 A, Fixed 1.5 V Output, 2.8 to 5.5 V Input, with Low IQ, 5-pin DDPAK (KTT), -40 to 85 degC, Green (RoHS & no Sb/Br); Manufacturer: Texas Instruments; PartNumber: TPS75815KTTT; Accuracy(%): 3; Fixed Output Options(V): 1.5; Iq(Typ)(mA): 0.12; SubFamily: Single Channel LDO; Vdo(Typ)(mV): 150; Vin(Max)(V): 5.5; Vin(Min)(V): 2.8; DatasheetVersion: SLVS330F; PackageVersion: 4200577-3/F; PackageReference: KTT5; PackageDescription: 3-Pin Plastic Flange Mount, Body 10.16 x 10.34 mm, Pitch 1.7 mm; Supplier 1: Digi-Key; Supplier Part Number 1: 296-15926-2-ND; Supplier 2: Digi-Key; Supplier Part Number 2: 296-15926-1-ND; Supplier 3: Digi-Key; Supplier Part Number 3: 296-15926-6-ND; Supplier 4: Mouser; Supplier Part Number 4: 595-TPS75815KTTT; Eco-Plan: Green (RoHS & no Sb/Br); Iout(Max)(A): 3; Vout Adj(Max)(V): 1.5; Vout Adj(Min)(V): 1.5; Mounting Technology: Surface Mount; Code_JEDEC: TO-263; ComponentLink1Description: Manufacturer URL; ComponentLink1URL: http://www.ti.com/; ComponentLink2Description: Datasheet; ComponentLink2URL: http://www.ti.com/general/docs/lit/getliterature.tsp?genericPartNumber=TPS75815&fileType=pdf; ComponentLink3Description: Package Specification; ComponentLink3URL: http://www.ti.com/litv/pdf/mpsf007e
footprint TI-KTT5_N (DPAK, 5-Leads, Body 10.16x8.925mm, Pitch 1.7mm, IPC Medium Density)
footprint TI-KTT5_L (DPAK, 5-Leads, Body 10.16x8.925mm, Pitch 1.7mm, IPC High Density)
footprint TI-KTT5_M (DPAK, 5-Leads, Body 10.16x8.925mm, Pitch 1.7mm, IPC Low Density)
pins: 1 EN (in) "Enable input", 2 IN (power) "Input voltage", 3 GND (power) "Regulator ground", 4 OUT (power) "Regulated output voltage", 5 NC "No connection for fixed options", 6 TAB (power) "Exposed Thermal Tab"

## TPS75815KTTTG3
designator U?
Single Output Fast Transient Response LDO, 3 A, Fixed 1.5 V Output, 2.8 to 5.5 V Input, with Low IQ, 5-pin DDPAK (KTT), -40 to 85 degC, Green (RoHS & no Sb/Br); Manufacturer: Texas Instruments; PartNumber: TPS75815KTTTG3; Accuracy(%): 3; Fixed Output Options(V): 1.5; Iq(Typ)(mA): 0.12; SubFamily: Single Channel LDO; Vdo(Typ)(mV): 150; Vin(Max)(V): 5.5; Vin(Min)(V): 2.8; DatasheetVersion: SLVS330F; PackageVersion: 4200577-3/F; PackageReference: KTT5; PackageDescription: 3-Pin Plastic Flange Mount, Body 10.16 x 10.34 mm, Pitch 1.7 mm; Supplier 1: Digi-Key; Supplier Part Number 1: TPS75815KTTTG3-ND; Supplier 2: Newark; Supplier Part Number 2: 70K5780; Supplier 3: Mouser; Supplier Part Number 3: 595-TPS75815KTTTG3; Eco-Plan: Green (RoHS & no Sb/Br); Iout(Max)(A): 3; Vout Adj(Max)(V): 1.5; Vout Adj(Min)(V): 1.5; Mounting Technology: Surface Mount; Code_JEDEC: TO-263; ComponentLink1Description: Manufacturer URL; ComponentLink1URL: http://www.ti.com/; ComponentLink2Description: Datasheet; ComponentLink2URL: http://www.ti.com/general/docs/lit/getliterature.tsp?genericPartNumber=TPS75815&fileType=pdf; ComponentLink3Description: Package Specification; ComponentLink3URL: http://www.ti.com/litv/pdf/mpsf007e
footprint TI-KTT5_N (DPAK, 5-Leads, Body 10.16x8.925mm, Pitch 1.7mm, IPC Medium Density)
footprint TI-KTT5_L (DPAK, 5-Leads, Body 10.16x8.925mm, Pitch 1.7mm, IPC High Density)
footprint TI-KTT5_M (DPAK, 5-Leads, Body 10.16x8.925mm, Pitch 1.7mm, IPC Low Density)
pins: 1 EN (in) "Enable input", 2 IN (power) "Input voltage", 3 GND (power) "Regulator ground", 4 OUT (power) "Regulated output voltage", 5 NC "No connection for fixed options", 6 TAB (power) "Exposed Thermal Tab"

## TPS75818KC
designator U?
Single Output Fast Transient Response LDO, 3 A, Fixed 1.8 V Output, 2.8 to 5.5 V Input, with Low IQ, 5-pin TO-220 (KC), -40 to 85 degC, Green (RoHS & no Sb/Br); Manufacturer: Texas Instruments; PartNumber: TPS75818KC; Accuracy(%): 3; Fixed Output Options(V): 1.8; Iq(Typ)(mA): 0.12; SubFamily: Single Channel LDO; Vdo(Typ)(mV): 150; Vin(Max)(V): 5.5; Vin(Min)(V): 2.8; DatasheetVersion: SLVS330F; PackageVersion: 4040208/F; PackageReference: KC5; PackageDescription: 5-Pin Plastic Flange Mount; Supplier 1: Digi-Key; Supplier Part Number 1: 296-11961-5-ND; Supplier 2: Newark; Supplier Part Number 2: 77C0987; Supplier 3: Mouser; Supplier Part Number 3: 595-TPS75818KC; Eco-Plan: Green (RoHS & no Sb/Br); Iout(Max)(A): 3; Vout Adj(Max)(V): 1.8; Vout Adj(Min)(V): 1.8; Mounting Technology: Through Hole; ComponentLink1Description: Manufacturer URL; ComponentLink1URL: http://www.ti.com/; ComponentLink2Description: Datasheet; ComponentLink2URL: http://www.ti.com/general/docs/lit/getliterature.tsp?genericPartNumber=TPS75818&fileType=pdf; ComponentLink3Description: Package Specification; ComponentLink3URL: http://www.ti.com/litv/pdf/msot008c
footprint TI-KC5 (FM, 5-Leads, Body 10.16x8.46mm, Pitch 1.7mm,)
pins: 1 EN (in) "Enable input", 2 IN (power) "Input supply", 3 GND (power) "Ground", 4 OUT (power) "Regulated output voltage", 5 NC "No connection"

## TPS75818KCG3
designator U?
Single Output Fast Transient Response LDO, 3 A, Fixed 1.5 V Output, 2.8 to 5.5 V Input, with Low IQ, 5-pin TO-220 (KC), -40 to 85 degC, Green (RoHS & no Sb/Br); Manufacturer: Texas Instruments; PartNumber: TPS75818KCG3; Accuracy(%): 3; Fixed Output Options(V): 1.5; Iq(Typ)(mA): 0.12; SubFamily: Single Channel LDO; Vdo(Typ)(mV): 150; Vin(Max)(V): 5.5; Vin(Min)(V): 2.8; Vout Adj(Max)(V): 1.8; DatasheetVersion: SLVS330F; PackageVersion: 4040208/F; PackageReference: KC5; PackageDescription: 5-Pin Plastic Flange Mount; Supplier 1: Digi-Key; Supplier Part Number 1: TPS75818KCG3-ND; Supplier 2: Mouser; Supplier Part Number 2: 595-TPS75818KCG3; Eco-Plan: Green (RoHS & no Sb/Br); Iout(Max)(A): 3; Vout Adj(Min)(V): 1.8; Mounting Technology: Through Hole; ComponentLink1Description: Manufacturer URL; ComponentLink1URL: http://www.ti.com/; ComponentLink2Description: Datasheet; ComponentLink2URL: http://www.ti.com/general/docs/lit/getliterature.tsp?genericPartNumber=TPS75818&fileType=pdf; ComponentLink3Description: Package Specification; ComponentLink3URL: http://www.ti.com/litv/pdf/msot008c
footprint TI-KC5 (FM, 5-Leads, Body 10.16x8.46mm, Pitch 1.7mm,)
pins: 1 EN (in) "Enable input", 2 IN (power) "Input supply", 3 GND (power) "Ground", 4 OUT (power) "Regulated output voltage", 5 NC "No connection"

## TPS75818KTTR
designator U?
Single Output Fast Transient Response LDO, 3 A, Fixed 1.8 V Output, 2.8 to 5.5 V Input, with Low IQ, 5-pin DDPAK (KTT), -40 to 85 degC, Green (RoHS & no Sb/Br); Manufacturer: Texas Instruments; PartNumber: TPS75818KTTR; Accuracy(%): 3; Fixed Output Options(V): 1.8; Iq(Typ)(mA): 0.12; SubFamily: Single Channel LDO; Vdo(Typ)(mV): 150; Vin(Max)(V): 5.5; Vin(Min)(V): 2.8; DatasheetVersion: SLVS330F; PackageVersion: 4200577-3/F; PackageReference: KTT5; PackageDescription: 3-Pin Plastic Flange Mount, Body 10.16 x 10.34 mm, Pitch 1.7 mm; Supplier 1: Digi-Key; Supplier Part Number 1: TPS75818KTTR-ND; Supplier 2: Mouser; Supplier Part Number 2: 595-TPS75818KTTR; Eco-Plan: Green (RoHS & no Sb/Br); Iout(Max)(A): 3; Vout Adj(Max)(V): 1.8; Vout Adj(Min)(V): 1.8; Mounting Technology: Surface Mount; Code_JEDEC: TO-263; ComponentLink1Description: Manufacturer URL; ComponentLink1URL: http://www.ti.com/; ComponentLink2Description: Datasheet; ComponentLink2URL: http://www.ti.com/general/docs/lit/getliterature.tsp?genericPartNumber=TPS75818&fileType=pdf; ComponentLink3Description: Package Specification; ComponentLink3URL: http://www.ti.com/litv/pdf/mpsf007e
footprint TI-KTT5_N (DPAK, 5-Leads, Body 10.16x8.925mm, Pitch 1.7mm, IPC Medium Density)
footprint TI-KTT5_L (DPAK, 5-Leads, Body 10.16x8.925mm, Pitch 1.7mm, IPC High Density)
footprint TI-KTT5_M (DPAK, 5-Leads, Body 10.16x8.925mm, Pitch 1.7mm, IPC Low Density)
pins: 1 EN (in) "Enable input", 2 IN (power) "Input supply", 3 GND (power) "Ground", 4 OUT (power) "Regulated output voltage; see Output Capacitor section for output capacitor requirements.", 5 NC "Connect to GND or leave open for fixed VOUT devices.", 6 TAB "Exposed Thermal Tab"

## TPS75818KTTRG3
designator U?
Single Output Fast Transient Response LDO, 3 A, Fixed 1.8 V Output, 2.8 to 5.5 V Input, with Low IQ, 5-pin DDPAK (KTT), -40 to 85 degC, Green (RoHS & no Sb/Br); Manufacturer: Texas Instruments; PartNumber: TPS75818KTTRG3; Accuracy(%): 3; Fixed Output Options(V): 1.8; Iq(Typ)(mA): 0.12; SubFamily: Single Channel LDO; Vdo(Typ)(mV): 150; Vin(Max)(V): 5.5; Vin(Min)(V): 2.8; DatasheetVersion: SLVS330F; PackageVersion: 4200577-3/F; PackageReference: KTT5; PackageDescription: 3-Pin Plastic Flange Mount, Body 10.16 x 10.34 mm, Pitch 1.7 mm; Supplier 1: Digi-Key; Supplier Part Number 1: TPS75818KTTRG3-ND; Supplier 2: Mouser; Supplier Part Number 2: 595-TPS75818KTTRG3; Eco-Plan: Green (RoHS & no Sb/Br); Iout(Max)(A): 3; Vout Adj(Max)(V): 1.8; Vout Adj(Min)(V): 1.8; Mounting Technology: Surface Mount; Code_JEDEC: TO-263; ComponentLink1Description: Manufacturer URL; ComponentLink1URL: http://www.ti.com/; ComponentLink2Description: Datasheet; ComponentLink2URL: http://www.ti.com/general/docs/lit/getliterature.tsp?genericPartNumber=TPS75818&fileType=pdf; ComponentLink3Description: Package Specification; ComponentLink3URL: http://www.ti.com/litv/pdf/mpsf007e
footprint TI-KTT5_N (DPAK, 5-Leads, Body 10.16x8.925mm, Pitch 1.7mm, IPC Medium Density)
footprint TI-KTT5_L (DPAK, 5-Leads, Body 10.16x8.925mm, Pitch 1.7mm, IPC High Density)
footprint TI-KTT5_M (DPAK, 5-Leads, Body 10.16x8.925mm, Pitch 1.7mm, IPC Low Density)
pins: 1 EN (in) "Enable input", 2 IN (power) "Input supply", 3 GND (power) "Ground", 4 OUT (power) "Regulated output voltage; see Output Capacitor section for output capacitor requirements.", 5 NC "Connect to GND or leave open for fixed VOUT devices.", 6 TAB "Exposed Thermal Tab"

## TPS75818KTTT
designator U?
Single Output Fast Transient Response LDO, 3 A, Fixed 1.8 V Output, 2.8 to 5.5 V Input, with Low IQ, 5-pin DDPAK (KTT), -40 to 85 degC, Green (RoHS & no Sb/Br); Manufacturer: Texas Instruments; PartNumber: TPS75818KTTT; Accuracy(%): 3; Fixed Output Options(V): 1.8; Iq(Typ)(mA): 0.12; SubFamily: Single Channel LDO; Vdo(Typ)(mV): 150; Vin(Max)(V): 5.5; Vin(Min)(V): 2.8; DatasheetVersion: SLVS330F; PackageVersion: 4200577-3/F; PackageReference: KTT5; PackageDescription: 3-Pin Plastic Flange Mount, Body 10.16 x 10.34 mm, Pitch 1.7 mm; Supplier 1: Digi-Key; Supplier Part Number 1: 296-15927-2-ND; Supplier 2: Digi-Key; Supplier Part Number 2: 296-15927-1-ND; Supplier 3: Digi-Key; Supplier Part Number 3: 296-15927-6-ND; Supplier 4: Newark; Supplier Part Number 4: 87H2998; Supplier 5: Mouser; Supplier Part Number 5: 595-TPS75818KTTT; Eco-Plan: Green (RoHS & no Sb/Br); Iout(Max)(A): 3; Vout Adj(Max)(V): 1.8; Vout Adj(Min)(V): 1.8; Mounting Technology: Surface Mount; Code_JEDEC: TO-263; ComponentLink1Description: Manufacturer URL; ComponentLink1URL: http://www.ti.com/; ComponentLink2Description: Datasheet; ComponentLink2URL: http://www.ti.com/general/docs/lit/getliterature.tsp?genericPartNumber=TPS75818&fileType=pdf; ComponentLink3Description: Package Specification; ComponentLink3URL: http://www.ti.com/litv/pdf/mpsf007e
footprint TI-KTT5_N (DPAK, 5-Leads, Body 10.16x8.925mm, Pitch 1.7mm, IPC Medium Density)
footprint TI-KTT5_L (DPAK, 5-Leads, Body 10.16x8.925mm, Pitch 1.7mm, IPC High Density)
footprint TI-KTT5_M (DPAK, 5-Leads, Body 10.16x8.925mm, Pitch 1.7mm, IPC Low Density)
pins: 1 EN (in) "Enable input", 2 IN (power) "Input supply", 3 GND (power) "Ground", 4 OUT (power) "Regulated output voltage; see Output Capacitor section for output capacitor requirements.", 5 NC "Connect to GND or leave open for fixed VOUT devices.", 6 TAB "Exposed Thermal Tab"

## TPS75818KTTTG3
designator U?
Single Output Fast Transient Response LDO, 3 A, Fixed 1.8 V Output, 2.8 to 5.5 V Input, with Low IQ, 5-pin DDPAK (KTT), -40 to 85 degC, Green (RoHS & no Sb/Br); Manufacturer: Texas Instruments; PartNumber: TPS75818KTTTG3; Accuracy(%): 3; Fixed Output Options(V): 1.8; Iq(Typ)(mA): 0.12; SubFamily: Single Channel LDO; Vdo(Typ)(mV): 150; Vin(Max)(V): 5.5; Vin(Min)(V): 2.8; DatasheetVersion: SLVS330F; PackageVersion: 4200577-3/F; PackageReference: KTT5; PackageDescription: 3-Pin Plastic Flange Mount, Body 10.16 x 10.34 mm, Pitch 1.7 mm; Supplier 1: Digi-Key; Supplier Part Number 1: TPS75818KTTTG3-ND; Supplier 2: Newark; Supplier Part Number 2: 73K9632; Supplier 3: Mouser; Supplier Part Number 3: 595-TPS75818KTTTG3; Eco-Plan: Green (RoHS & no Sb/Br); Iout(Max)(A): 3; Vout Adj(Max)(V): 1.8; Vout Adj(Min)(V): 1.8; Mounting Technology: Surface Mount; Code_JEDEC: TO-263; ComponentLink1Description: Manufacturer URL; ComponentLink1URL: http://www.ti.com/; ComponentLink2Description: Datasheet; ComponentLink2URL: http://www.ti.com/general/docs/lit/getliterature.tsp?genericPartNumber=TPS75818&fileType=pdf; ComponentLink3Description: Package Specification; ComponentLink3URL: http://www.ti.com/litv/pdf/mpsf007e
footprint TI-KTT5_N (DPAK, 5-Leads, Body 10.16x8.925mm, Pitch 1.7mm, IPC Medium Density)
footprint TI-KTT5_L (DPAK, 5-Leads, Body 10.16x8.925mm, Pitch 1.7mm, IPC High Density)
footprint TI-KTT5_M (DPAK, 5-Leads, Body 10.16x8.925mm, Pitch 1.7mm, IPC Low Density)
pins: 1 EN (in) "Enable input", 2 IN (power) "Input supply", 3 GND (power) "Ground", 4 OUT (power) "Regulated output voltage; see Output Capacitor section for output capacitor requirements.", 5 NC "Connect to GND or leave open for fixed VOUT devices.", 6 TAB "Exposed Thermal Tab"

## TPS75825KC
designator U?
Single Output Fast Transient Response LDO, 3 A, Fixed 2.5 V Output, 2.8 to 5.5 V Input, with Low IQ, 5-pin TO-220 (KC), -40 to 85 degC, Green (RoHS & no Sb/Br); Manufacturer: Texas Instruments; PartNumber: TPS75825KC; Accuracy(%): 3; Fixed Output Options(V): 2.5; Iq(Typ)(mA): 0.12; SubFamily: Single Channel LDO; Vdo(Typ)(mV): 150; Vin(Max)(V): 5.5; Vin(Min)(V): 2.8; DatasheetVersion: SLVS330F; PackageVersion: 4040208/F; PackageReference: KC5; PackageDescription: 5-Pin Plastic Flange Mount; Supplier 1: Digi-Key; Supplier Part Number 1: 296-11963-5-ND; Supplier 2: Newark; Supplier Part Number 2: 77C0990; Supplier 3: Mouser; Supplier Part Number 3: 595-TPS75825KC; Eco-Plan: Green (RoHS & no Sb/Br); Iout(Max)(A): 3; Vout Adj(Max)(V): 2.5; Vout Adj(Min)(V): 2.5; Mounting Technology: Through Hole; ComponentLink1Description: Manufacturer URL; ComponentLink1URL: http://www.ti.com/; ComponentLink2Description: Datasheet; ComponentLink2URL: http://www.ti.com/general/docs/lit/getliterature.tsp?genericPartNumber=TPS75825&fileType=pdf; ComponentLink3Description: Package Specification; ComponentLink3URL: http://www.ti.com/litv/pdf/msot008c
footprint TI-KC5 (FM, 5-Leads, Body 10.16x8.46mm, Pitch 1.7mm,)
pins: 1 EN (in) "Enable input", 2 IN (power) "Input supply", 3 GND (power) "Ground", 4 OUT (power) "Regulated output voltage", 5 NC "No connection"

## TPS75825KCG3
designator U?
Single Output Fast Transient Response LDO, 3 A, Fixed 2.5 V Output, 2.8 to 5.5 V Input, with Low IQ, 5-pin TO-220 (KC), -40 to 85 degC, Green (RoHS & no Sb/Br); Manufacturer: Texas Instruments; PartNumber: TPS75825KCG3; Accuracy(%): 3; Fixed Output Options(V): 2.5; Iq(Typ)(mA): 0.12; SubFamily: Single Channel LDO; Vdo(Typ)(mV): 150; Vin(Max)(V): 5.5; Vin(Min)(V): 2.8; DatasheetVersion: SLVS330F; PackageVersion: 4040208/F; PackageReference: KC5; PackageDescription: 5-Pin Plastic Flange Mount; Supplier 1: Digi-Key; Supplier Part Number 1: TPS75825KCG3-ND; Supplier 2: Newark; Supplier Part Number 2: 99K4439; Supplier 3: Mouser; Supplier Part Number 3: 595-TPS75825KCG3; Eco-Plan: Green (RoHS & no Sb/Br); Iout(Max)(A): 3; Vout Adj(Max)(V): 2.5; Vout Adj(Min)(V): 2.5; Mounting Technology: Through Hole; ComponentLink1Description: Manufacturer URL; ComponentLink1URL: http://www.ti.com/; ComponentLink2Description: Datasheet; ComponentLink2URL: http://www.ti.com/general/docs/lit/getliterature.tsp?genericPartNumber=TPS75825&fileType=pdf; ComponentLink3Description: Package Specification; ComponentLink3URL: http://www.ti.com/litv/pdf/msot008c
footprint TI-KC5 (FM, 5-Leads, Body 10.16x8.46mm, Pitch 1.7mm,)
pins: 1 EN (in) "Enable input", 2 IN (power) "Input supply", 3 GND (power) "Ground", 4 OUT (power) "Regulated output voltage", 5 NC "No connection"

## TPS75825KTTR
designator U?
Single Output Fast Transient Response LDO, 3 A, Fixed 2.5 V Output, 2.8 to 5.5 V Input, with Low IQ, 5-pin DDPAK (KTT), -40 to 85 degC, Green (RoHS & no Sb/Br); Manufacturer: Texas Instruments; PartNumber: TPS75825KTTR; Accuracy(%): 3; Fixed Output Options(V): 2.5; Iq(Typ)(mA): 0.12; SubFamily: Single Channel LDO; Vdo(Typ)(mV): 150; Vin(Max)(V): 5.5; Vin(Min)(V): 2.8; DatasheetVersion: SLVS330F; PackageVersion: 4200577-3/F; PackageReference: KTT5; PackageDescription: 3-Pin Plastic Flange Mount, Body 10.16 x 10.34 mm, Pitch 1.7 mm; Supplier 1: Digi-Key; Supplier Part Number 1: TPS75825KTTR-ND; Supplier 2: Mouser; Supplier Part Number 2: 595-TPS75825KTTR; Eco-Plan: Green (RoHS & no Sb/Br); Iout(Max)(A): 3; Vout Adj(Max)(V): 2.5; Vout Adj(Min)(V): 2.5; Mounting Technology: Surface Mount; Code_JEDEC: TO-263; ComponentLink1Description: Manufacturer URL; ComponentLink1URL: http://www.ti.com/; ComponentLink2Description: Datasheet; ComponentLink2URL: http://www.ti.com/general/docs/lit/getliterature.tsp?genericPartNumber=TPS75825&fileType=pdf; ComponentLink3Description: Package Specification; ComponentLink3URL: http://www.ti.com/litv/pdf/mpsf007e
footprint TI-KTT5_N (DPAK, 5-Leads, Body 10.16x8.925mm, Pitch 1.7mm, IPC Medium Density)
footprint TI-KTT5_L (DPAK, 5-Leads, Body 10.16x8.925mm, Pitch 1.7mm, IPC High Density)
footprint TI-KTT5_M (DPAK, 5-Leads, Body 10.16x8.925mm, Pitch 1.7mm, IPC Low Density)
pins: 1 EN (in) "Enable input", 2 IN (power) "Input supply", 3 GND (power) "Ground", 4 OUT (power) "Regulated output voltage; see Output Capacitor section for output capacitor requirements.", 5 NC "Connect to GND or leave open for fixed VOUT devices.", 6 TAB (power)

## TPS75825KTTRG3
designator U?
Single Output Fast Transient Response LDO, 3 A, Fixed 2.5 V Output, 2.8 to 5.5 V Input, with Low IQ, 5-pin DDPAK (KTT), -40 to 85 degC, Green (RoHS & no Sb/Br); Manufacturer: Texas Instruments; PartNumber: TPS75825KTTRG3; Accuracy(%): 3; Fixed Output Options(V): 2.5; Iq(Typ)(mA): 0.12; SubFamily: Single Channel LDO; Vdo(Typ)(mV): 150; Vin(Max)(V): 5.5; Vin(Min)(V): 2.8; DatasheetVersion: SLVS330F; PackageVersion: 4200577-3/F; PackageReference: KTT5; PackageDescription: 3-Pin Plastic Flange Mount, Body 10.16 x 10.34 mm, Pitch 1.7 mm; Supplier 1: Digi-Key; Supplier Part Number 1: TPS75825KTTRG3-ND; Supplier 2: Mouser; Supplier Part Number 2: 595-TPS75825KTTRG3; Eco-Plan: Green (RoHS & no Sb/Br); Iout(Max)(A): 3; Vout Adj(Max)(V): 2.5; Vout Adj(Min)(V): 2.5; Mounting Technology: Surface Mount; Code_JEDEC: TO-263; ComponentLink1Description: Manufacturer URL; ComponentLink1URL: http://www.ti.com/; ComponentLink2Description: Datasheet; ComponentLink2URL: http://www.ti.com/general/docs/lit/getliterature.tsp?genericPartNumber=TPS75825&fileType=pdf; ComponentLink3Description: Package Specification; ComponentLink3URL: http://www.ti.com/litv/pdf/mpsf007e
footprint TI-KTT5_N (DPAK, 5-Leads, Body 10.16x8.925mm, Pitch 1.7mm, IPC Medium Density)
footprint TI-KTT5_L (DPAK, 5-Leads, Body 10.16x8.925mm, Pitch 1.7mm, IPC High Density)
footprint TI-KTT5_M (DPAK, 5-Leads, Body 10.16x8.925mm, Pitch 1.7mm, IPC Low Density)
pins: 1 EN (in) "Enable input", 2 IN (power) "Input supply", 3 GND (power) "Ground", 4 OUT (power) "Regulated output voltage; see Output Capacitor section for output capacitor requirements.", 5 NC "Connect to GND or leave open for fixed VOUT devices.", 6 TAB (power)